# Altium schematic symbol library SA_SchLib.SchLib: 3 symbols
Pins are listed as number, name and electrical type; pins without a type are passive.

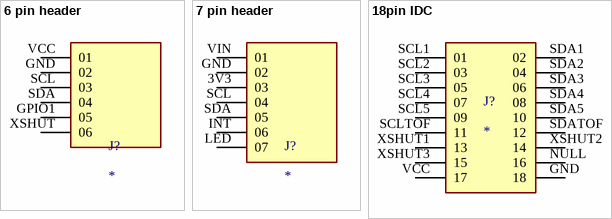
[diagram p0: symbols 6 pin header to 18pin IDC]

## 6 pin header
designator J?
6 Position Header Connector Male Pin Gold; MF: Samtec; MP: TS-114-G-AA; SnapEDA_Link: https://www.snapeda.com/parts/TS-114-G-AA/Samtec/view-part/?ref=snap; Package: None; Value: *; Check_prices: https://www.snapeda.com/parts/TS-114-G-AA/Samtec/view-part/?ref=eda
footprint 6 pin header
pins: GND 02, GPIO1 05, SCL 03, SDA 04, VCC 01, XSHUT 06

## 7 pin header
designator J?
14 Position Header Connector Male Pin Gold; MF: Samtec; MP: TS-114-G-AA; SnapEDA_Link: https://www.snapeda.com/parts/TS-114-G-AA/Samtec/view-part/?ref=snap; Package: None; Value: *; Check_prices: https://www.snapeda.com/parts/TS-114-G-AA/Samtec/view-part/?ref=eda
footprint 7 pin header holes
pins: 3V3 03, GND 02, INT 06, LED 07, SCL 04, SDA 05, VIN 01

## 18pin IDC
designator J?
Slim Body Double-Row IDC Male Assemblies, 0.100 Pitch; MF: SAMTEC; MP: IDMD-10-S-07.00-G; SnapEDA_Link: https://www.snapeda.com/parts/IDMD-10-S-07.00-G/Samtec/view-part/?ref=snap; Package: None; Value: *; Check_prices: https://www.snapeda.com/parts/IDMD-10-S-07.00-G/Samtec/view-part/?ref=eda
footprint IDC 18 pin
pins: GND 18, NULL 16, SCL1 01, SCL2 03, SCL3 05, SCL4 07, SCL5 09, SCLTOF 11, SDA1 02, SDA2 04, SDA3 06, SDA4 08, SDA5 10, SDATOF 12, VCC 17, XSHUT1 13, XSHUT2 14, XSHUT3 15